# Altium footprint library DCDC-Converters.PcbLib: 11 footprints
Each footprint in its own frame and in the unit in brackets; x right, y up, seen from the top. Pads: shape width x height; smd on the part's side, far side on the other; paste and mask are expansions set on the pad; w line width, h text height; cw(c..) or ccw(c..) is an arc to the next point about the centre after c.
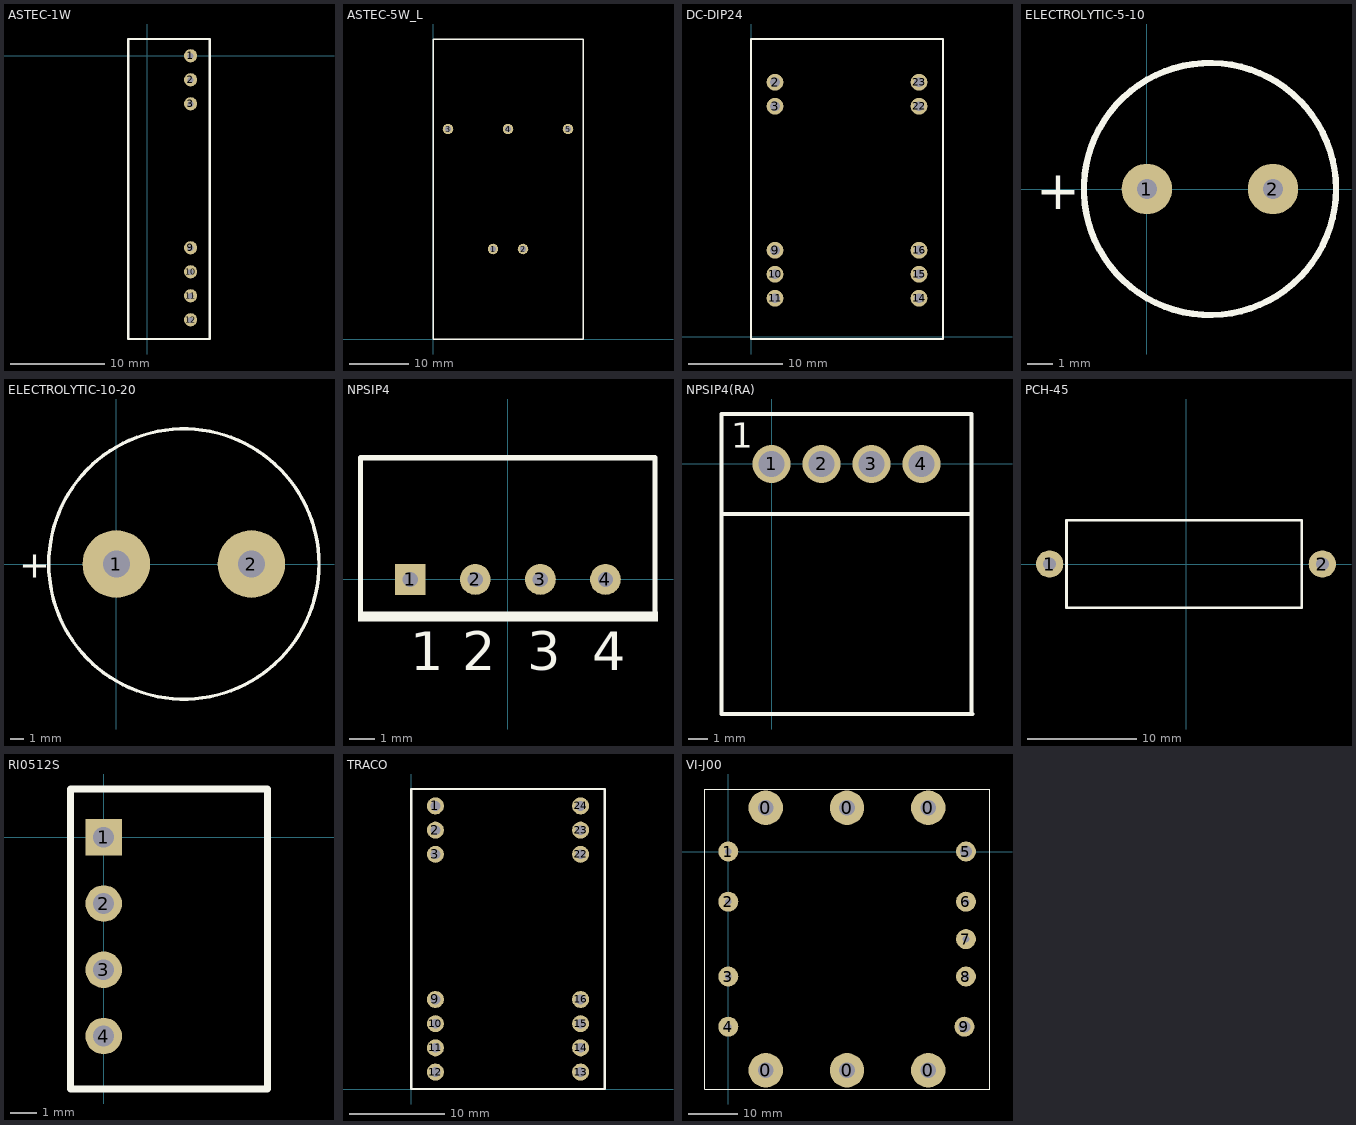
[diagram p0: the footprints below, top view; thin cyan lines are the x and y axes]

## ASTEC-1W [mil]
height 590.55
pads (7):
  round 55 hole 25: 1(180,0) 2(180,-100) 3(180,-200) 9(180,-800) 10(180,-900) 11(180,-1000) 12(180,-1100)
Top Overlay:
  lines w10: -80,-1180 260,-1180 260,70 -80,70 -80,-1180

## ASTEC-5W_L [mil]
height 314.96
pads (5):
  round 70 hole 40: 1(400,600) 2(600,600) 3(100,1400) 4(500,1400) 5(900,1400)
Top Overlay:
  lines w10: 0,0 0,2000 1000,2000 1000,0 0,0

## DC-DIP24 [mil]
height 314.96
pads (10):
  round 70 hole 40: 2(100,1060) 3(100,960) 9(100,360) 10(100,260) 11(100,160) 14(700,160) 15(700,260) 16(700,360) 22(700,960) 23(700,1060)
Top Overlay:
  lines w10: 0,-10 800,-10 800,1240 0,1240 0,-10

## ELECTROLYTIC-5-10 [mm]
pads (2):
  round 2 hole 0.8: 1(0,0) 2(5,0)
Top Overlay:
  circle w0.254: c2.5,0 r5
  text "+" at -4.4,-0.8 h1.52

## ELECTROLYTIC-10-20 [mm]
pads (2):
  round 5 hole 2: 1(0,0) 2(10,0)
Top Overlay:
  circle w0.254: c5,0 r10
  text "+" at -7.2,-1 h2

## NPSIP4 [mm]
height 0.254
pads (4):
  rect 1.2x1.2 hole 0.6: 1(-3.81,0)
  round 1.2 hole 0.6: 2(-1.27,0) 3(1.27,0) 4(3.81,0)
Top Overlay:
  rectangle: -5.85,-1.65 5.86,-1.25
  lines w0.2: -5.75,-1.25 -5.75,4.75 5.75,4.75 5.75,-1.25
  text "1" at -3.81,-3.544 h1.5
  text "2" at -1.778,-3.544 h1.5
  text "3" at 0.762,-3.544 h1.5
  text "4" at 3.302,-3.544 h1.5

## NPSIP4(RA) [mil]
pads (4):
  round 76 hole 52: 1(0,0) 2(100,0) 3(200,0) 4(300,0)
Top Overlay:
  lines w7.87: -100,-100 -100,-500 400,-500 ; 400,-498.43 400,-100 ; 401.57,-500 401.97,-500.39
  lines w8: -100,-100 400,-100 400,100 -100,100 -100,-100
  text "1" at -80.31,32.28 h50

## PCH-45 [mm]
pads (2):
  round 2.5 hole 1.2: 1(-12.5,0) 2(12.5,0)
Top Overlay:
  lines w0.254: -10.96,-4 10.6,-4 10.6,4 -10.96,4 -10.96,-4

## RI0512S [mm]
pads (4):
  rect 1.4x1.4 hole 0.8: 1(0,0)
  round 1.4 hole 0.8: 2(0,-2.54) 3(0,-5.08) 4(0,-7.62)
Top Overlay:
  lines w0.254: -1.27,1.85 -1.27,-9.65 6.28,-9.65 6.28,1.85 -1.26,1.85

## TRACO [mil]
height 314.96
pads (14):
  round 70 hole 40: 1(100,1170) 2(100,1070) 3(100,970) 9(100,370) 10(100,270) 11(100,170) 12(100,70) 13(700,70) 14(700,170) 15(700,270) 16(700,370) 22(700,970) 23(700,1070) 24(700,1170)
Top Overlay:
  lines w10: 0,0 0,1240 800,1240 800,0 0,0

## VI-J00 [mm]
pads (15):
  round 7 hole 3.2: 0(7.62,-44.45) 0(7.62,8.89) 0(24.13,-44.45) 0(24.13,8.89) 0(40.64,-44.45) 0(40.64,8.89)
  round 4.064 hole 1.4: 1(0,0) 2(0,-10.2) 3(0,-25.4) 4(0,-35.6) 6(48.3,-10.2) 7(48.3,-17.8) 8(48.3,-25.4)
  round 4.064 hole 2.4: 5(48.3,0) 9(48,-35.6)
Top Overlay:
  lines w0.254: -4.826,-48.26 -4.826,12.7 53.086,12.7 53.086,-48.26 -4.826,-48.26